# Altium schematic symbol library SnapEDAsch.SchLib: 1 symbol
Pins are listed as number, name and electrical type; pins without a type are passive.

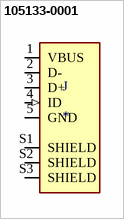
[diagram p0: symbol 105133-0001]

## 105133-0001
designator J
USB - micro B USB 2.0 Receptacle Connector 5 Position Surface Mount; MP: 105133-0001; MF: Molex; Availability: Unavailable; SnapEDA_Link: https://www.snapeda.com/parts/105133-0001/Molex/view-part/4593629/?ref=snap; Price: None; Value: *; Package: None
footprint MOLEX_105133-0001
pins: 1 VBUS (power), 2 D- (io), 3 D+ (io), 4 ID (in), 5 GND (power), S1 SHIELD, S2 SHIELD, S3 SHIELD